# Altium footprint library Routes.PcbLib: 5 footprints
Each footprint in its own frame and in the unit in brackets; x right, y up, seen from the top. Pads: shape width x height; smd on the part's side, far side on the other; paste and mask are expansions set on the pad; w line width, h text height; cw(c..) or ccw(c..) is an arc to the next point about the centre after c.
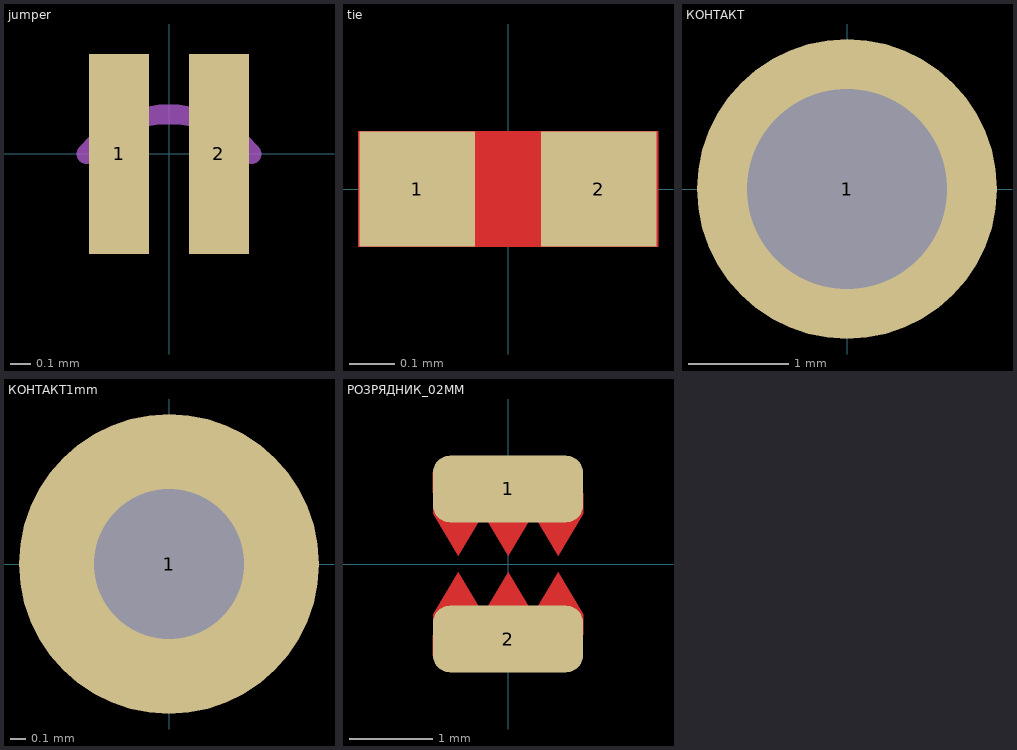
[diagram p0: the footprints below, top view; thin cyan lines are the x and y axes]

## jumper [mm]
pads (2):
  rect 0.3x1 smd: 1(-0.25,0) 2(0.25,0)
Mechanical 13:
  lines w0.1: -0.412,0 cw(c0,-0.325) 0.412,0

## tie [mil]
pads (2):
  rect 10x10 smd paste-10: 1(-7.87,0) 2(7.87,0)
Top Layer:
  region: -13,5 13,5 13,-5 -13,-5

## КОНТАКТ [mm]
pads (1):
  round 3 hole 2: 1(0,0)
Mechanical 13:
  circle w0.1: c0,0 r0.976

## КОНТАКТ1mm [mm]
pads (1):
  round 2 hole 1: 1(0,0)

## РОЗРЯДНИК_02ММ [mm]
pads (2):
  rrect50% 1.8x0.8 smd paste-25.4 mask+0.08: 1(0,0.9) 2(0,-0.9)
Top Layer:
  region: -0.9,-1.1 -0.9,-0.6 -0.6,-0.1 -0.3,-0.6 0,-0.1 0.3,-0.6 0.6,-0.1 0.9,-0.6 0.9,-1.1
  region: -0.9,1.1 -0.9,0.6 -0.6,0.1 -0.3,0.6 0,0.1 0.3,0.6 0.6,0.1 0.9,0.6 0.9,1.1